# Altium footprint library TLC27L2.PcbLib: 3 footprints
Each footprint in its own frame and in the unit in brackets; x right, y up, seen from the top. Pads: shape width x height; smd on the part's side, far side on the other; paste and mask are expansions set on the pad; w line width, h text height; cw(c..) or ccw(c..) is an arc to the next point about the centre after c.
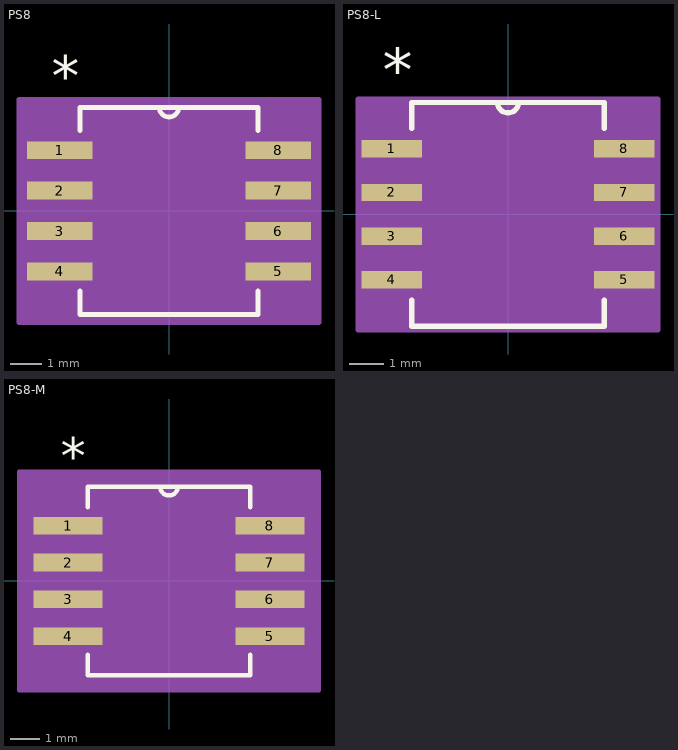
[diagram p0: the footprints below, top view; thin cyan lines are the x and y axes]

## PS8 [mil]
pads (8):
  rect 81x22 smd: 1(-135,75) 2(-135,25) 3(-135,-25) 4(-135,-75) 5(135,-75) 6(135,-25) 7(135,25) 8(135,75)
Top Overlay:
  lines w6: -110,-99.1 -110,-128 110,-128 110,-99.1 ; -110,99.1 -110,128 110,128 110,99.1 ; -12,128 ccw(c0,128) 12,128
  text "*" at -145,142 h50
Mechanical 13:
  lines w0: -12,128 ccw(c0,128) 12,128
  text "*" at -145,142 h50
Mechanical 15:
  region: 185.5,-138 -185.5,-138 -185.5,138 185.5,138
  lines w6: -185.5,-138 185.5,-138 185.5,138 -185.5,138 -185.5,-138
3D body: height 79.01, standoff 0, extent -161.49,-128 161.51,128

## PS8-L [mil]
pads (8):
  rect 69x20 smd: 1(-133,75) 2(-133,25) 3(-133,-25) 4(-133,-75) 5(133,-75) 6(133,-25) 7(133,25) 8(133,75)
Top Overlay:
  lines w6: -110,-98.1 -110,-128 110,-128 110,-98.1 ; -110,98.1 -110,128 110,128 110,98.1 ; -12,128 ccw(c0,128) 12,128
  text "*" at -143,140 h50
Mechanical 13:
  lines w0: -12,128 ccw(c0,128) 12,128
  text "*" at -143,140 h50
Mechanical 15:
  region: 171.5,-132 -171.5,-132 -171.5,132 171.5,132
  lines w6: -171.5,-132 171.5,-132 171.5,132 -171.5,132 -171.5,-132
3D body: height 79.01, standoff 0, extent -161.5,-128 161.5,128

## PS8-M [mil]
pads (8):
  rect 93x24 smd: 1(-137,75) 2(-137,25) 3(-137,-25) 4(-137,-75) 5(137,-75) 6(137,-25) 7(137,25) 8(137,75)
Top Overlay:
  lines w6: -110,-100.1 -110,-128 110,-128 110,-100.1 ; -110,100.1 -110,128 110,128 110,100.1 ; -12,128 ccw(c0,128) 12,128
  text "*" at -147,144 h50
Mechanical 13:
  lines w0: -12,128 ccw(c0,128) 12,128
  text "*" at -147,144 h50
Mechanical 15:
  region: 203.5,-148 -203.5,-148 -203.5,148 203.5,148
  lines w6: -203.5,-148 -203.5,148 203.5,148 203.5,-148 -203.5,-148
3D body: height 79.01, standoff 0, extent -161.5,-128 161.5,128